# Altium schematic symbol library ATmega16 demo_2015.SCHLIB: 25 symbols
Pins are listed as number, name and electrical type; pins without a type are passive.

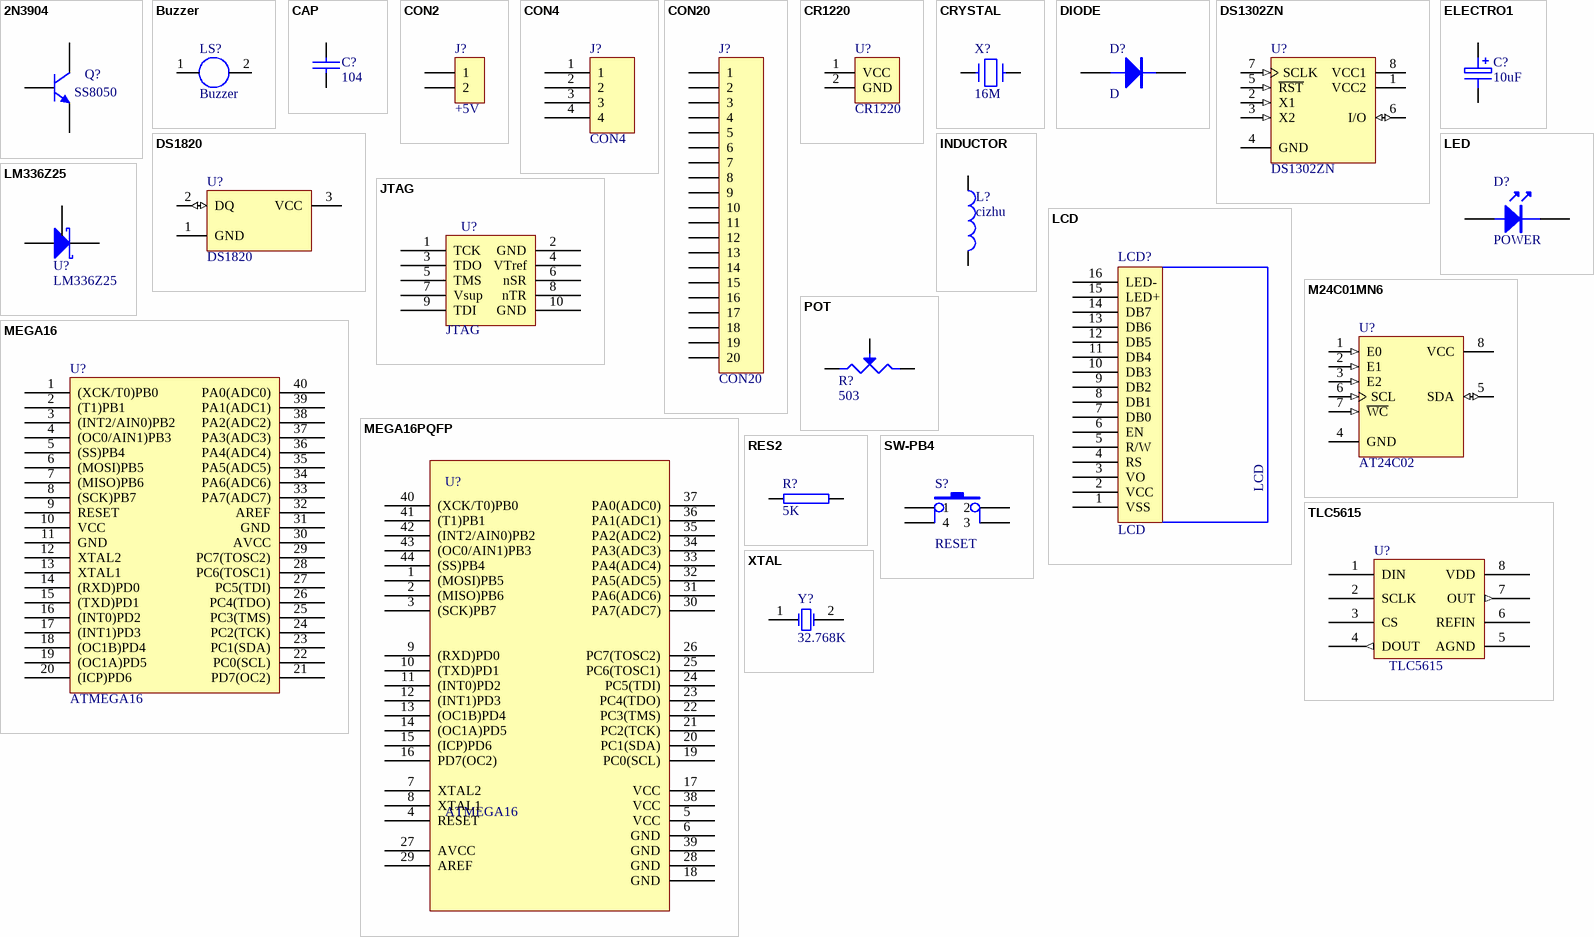
[diagram p0: symbols 2N3904 to XTAL]

## 2N3904
designator Q?, comment SS8050
NPN General Purpose Amplifier; Published: 8-Jun-2000; LatestRevisionDate: 15-Jan-2003; LatestRevisionNote: PCB Footprint 'BCY-W3/D4.7' replaced; DatasheetVersion: 1997; PackageVersion: Sep-1998; PackageReference: TO-92A; Publisher: Altium Limited; PackageDescription: TO, Flat Index; 3 In-Line, Axial Leads; Body Dia. 4.5mm; Leads 0.51 x 0.48 mm (max); ComponentLink1Description: Manufacturer Link; ComponentLink1URL: http://www.fairchildsemi.com/; ComponentLink2Description: Datasheet; ComponentLink2URL: http://www.fairchildsemi.com/ds/2N%2F2N3904.pdf
footprint TO-92A (TO, Flat Index; 3 In-Line, Axial Leads; Body Dia. 4.5mm; Leads 0.51 x 0.48 mm (max))
simulation model 2N3904 (NPN)
signal-integrity model 2N3904
footprint TO-92WIDE (Footprint not found)
pins: 1 E, 2 B, 3 C

## Buzzer
designator LS?
Buzzer Made in China
footprint Buzzer
pins: 1, 2

## CAP
designator C?, comment 104
footprint 0805
pins: 1, 2

## CON2
designator J?, comment +5V
Connector
footprint SIP2
pins: 1, 2

## CON4
designator J?
footprint SIP4
pins: 1, 2, 3, 4

## CON20
designator J?
Connector
footprint SIP20
pins: 1, 2, 3, 4, 5, 6, 7, 8, 9, 10, 11, 12, 13, 14, 15, 16, 17, 18, 19, 20

## CR1220
designator U?
footprint PCBComponent_1
footprint CR1220
pins: 1 VCC (power), 2 GND (power)

## CRYSTAL
designator X?, comment 16M
footprint XTAL2
pins: 1, 2

## DIODE
designator D?, comment D
Diode
footprint 1210 (Footprint not found); pin to pad 1>2 2>1
footprint 1211
footprint 1210
footprint Model Name (Footprint not found)
footprint 1210
footprint 1210
footprint 1211
footprint 1210
pins: 1, 2

## DS1302ZN
designator U?
Trickle Charge Timekeeping Chip; Published: 13-Oct-2000; LatestRevisionDate: 13-Apr-2006; LatestRevisionNote: IPC-7351 Footprint Added.; DatasheetVersion: 2-Jul-1999; PackageVersion: 1999; PackageReference: SOIC8N; Publisher: Altium Limited; PackageDescription: 8-Pin Small Outline Integrated Circuit 1.27 mm Pitch; Code_IPC: SOIC127P600-8; ComponentLink1Description: Manufacturer Link; ComponentLink1URL: http://www.maxim-ic.com/; ComponentLink2Description: Datasheet; ComponentLink2URL: http://pdfserv.maxim-ic.com/en/ds/DS1302.pdf; ComponentLink3Description: Discontinuation Notice; ComponentLink3URL: http://www.maxim-ic.com/qa/pdfs/non-obsolescence-letter.pdf
footprint SOIC8N_N (SOIC, 8-Leads, Body 4.9x3.9mm, Pitch 1.27mm, IPC Medium Density)
footprint SOIC8N_L (SOIC, 8-Leads, Body 4.9x3.9mm, Pitch 1.27mm, IPC High Density)
footprint SOIC8N_M (SOIC, 8-Leads, Body 4.9x3.9mm, Pitch 1.27mm, IPC Low Density)
3D model SOIC8N (8-Pin Small Outline Integrated Circuit 1.27 mm Pitch)
pins: 1 VCC2 (power), 2 X1 (in), 3 X2 (in), 4 GND (power), 5 ~{RST} (in), 6 I/O (io), 7 SCLK (in), 8 VCC1 (power)

## DS1820
designator U?
1-Wire Digital Thermometer; ComponentAvailability: Obsolete; Published: 13-Oct-2000; LatestRevisionDate: 17-Jul-2002; LatestRevisionNote: Re-released for DXP Platform.; DatasheetVersion: 5-Mar-1998; PackageVersion: 1999; PackageReference: PR35; Publisher: Altium Limited; PackageDescription: TO, Flat Index; 3 In-Line, Axial Leads; Body Dia. 4.6mm; Leads 0.56 x 0.51 mm (max); ComponentLink1Description: Manufacturer Link; ComponentLink1URL: http://www.maxim-ic.com/; ComponentLink2Description: Datasheet; ComponentLink2URL: http://pdfserv.maxim-ic.com/en/ds/DS1820-DS1820S.pdf; ComponentLink3Description: Discontinuation Notice; ComponentLink3URL: http://www.maxim-ic.com/qa/pdfs/non-obsolescence-letter.pdf
footprint PR35 (TO, Flat Index; 3 In-Line, Axial Leads; Body Dia. 4.6mm; Leads 0.56 x 0.51 mm (max))
footprint TO-92WIDE (Footprint not found)
pins: 1 GND (power), 2 DQ (io), 3 VCC (power)

## ELECTRO1
designator C?, comment 10uF
footprint 1210
pins: 1, 2

## INDUCTOR
designator L?, comment cizhu
Inductor; IC: *
footprint AXIAL0.35
footprint AXIAL-0.4
pins: 1, 2

## JTAG
designator U?
Text Field1: JTAG; JTAG: *
footprint JTAG
footprint IDC10
pins: 1 TCK, 2 GND, 3 TDO, 4 VTref, 5 TMS, 6 nSR, 7 Vsup, 8 nTR, 9 TDI, 10 GND

## LCD
designator LCD?
footprint SIP16
pins: 1 VSS, 2 VCC, 3 VO, 4 RS, 5 R/W, 6 EN, 7 DB0, 8 DB1, 9 DB2, 10 DB3, 11 DB4, 12 DB5, 13 DB6, 14 DB7, 15 LED+, 16 LED-

## LED
designator D?, comment POWER
footprint 0805
pins: 1, 2

## LM336Z25
designator U?
footprint TO-92
footprint TO-92WIDE
pins: 1 ADJ, 2 +, 3 -

## M24C01MN6
designator U?, comment AT24C02
1Kbit Serial I睠 Bus EEPROM; Published: 24-Aug-2001; LatestRevisionDate: 13-Apr-2006; LatestRevisionNote: IPC-7351 Footprint Added.; DatasheetVersion: Sep-1999; PackageVersion: Jul-1999; PackageReference: SOP8; Publisher: Altium Limited; PackageDescription: 8-Pin Small Outline Integrated Circuit 1.27 mm Pitch; ComponentLink1Description: Manufacturer Link; ComponentLink1URL: http://www.st.com/; ComponentLink2Description: Datasheet; ComponentLink2URL: http://www.st.com/stonline/products/literature/ds/5067/m24c01-r.pdf
footprint SOP8_N (SOIC, 8-Leads, Body 4.9x3.9mm, Pitch 1.27mm, IPC Medium Density)
footprint SOP8_L (SOIC, 8-Leads, Body 4.9x3.9mm, Pitch 1.27mm, IPC High Density)
footprint SOP8_M (SOIC, 8-Leads, Body 4.9x3.9mm, Pitch 1.27mm, IPC Low Density)
3D model SOP8 (8-Pin Small Outline Integrated Circuit 1.27 mm Pitch)
pins: 1 E0 (in), 2 E1 (in), 3 E2 (in), 4 GND (power), 5 SDA (io), 6 SCL (in), 7 ~{WC} (in), 8 VCC (power)

## MEGA16
designator U?, comment ATMEGA16
MEGA16; Text Field1: MEGA16; MEGA16: *
footprint DIP40
pins: 1 (XCK/T0)PB0, 2 (T1)PB1, 3 (INT2/AIN0)PB2, 4 (OC0/AIN1)PB3, 5 (SS)PB4, 6 (MOSI)PB5, 7 (MISO)PB6, 8 (SCK)PB7, 9 RESET, 10 VCC, 11 GND, 12 XTAL2, 13 XTAL1, 14 (RXD)PD0, 15 (TXD)PD1, 16 (INT0)PD2, 17 (INT1)PD3, 18 (OC1B)PD4, 19 (OC1A)PD5, 20 (ICP)PD6, 21 PD7(OC2), 22 PC0(SCL), 23 PC1(SDA), 24 PC2(TCK), 25 PC3(TMS), 26 PC4(TDO), 27 PC5(TDI), 28 PC6(TOSC1), 29 PC7(TOSC2), 30 AVCC, 31 GND, 32 AREF, 33 PA7(ADC7), 34 PA6(ADC6), 35 PA5(ADC5), 36 PA4(ADC4), 37 PA3(ADC3), 38 PA2(ADC2), 39 PA1(ADC1), 40 PA0(ADC0)

## MEGA16PQFP
designator U?, comment ATMEGA16
MEGA16; Text Field1: MEGA16; MEGA16: *
footprint TQFP80P1200X1200X120-44N (TQFP, 44-Leads, Body 10.00x10.00mm, Pitch 0.80mm, IPC Medium Density)
pins: 1 (MOSI)PB5, 2 (MISO)PB6, 3 (SCK)PB7, 4 RESET, 5 VCC, 6 GND, 7 XTAL2, 8 XTAL1, 9 (RXD)PD0, 10 (TXD)PD1, 11 (INT0)PD2, 12 (INT1)PD3, 13 (OC1B)PD4, 14 (OC1A)PD5, 15 (ICP)PD6, 16 PD7(OC2), 17 VCC, 18 GND, 19 PC0(SCL), 20 PC1(SDA), 21 PC2(TCK), 22 PC3(TMS), 23 PC4(TDO), 24 PC5(TDI), 25 PC6(TOSC1), 26 PC7(TOSC2), 27 AVCC, 28 GND, 29 AREF, 30 PA7(ADC7), 31 PA6(ADC6), 32 PA5(ADC5), 33 PA4(ADC4), 34 PA3(ADC3), 35 PA2(ADC2), 36 PA1(ADC1), 37 PA0(ADC0), 38 VCC, 39 GND, 40 (XCK/T0)PB0, 41 (T1)PB1, 42 (INT2/AIN0)PB2, 43 (OC0/AIN1)PB3, 44 (SS)PB4

## POT
designator R?, comment 503
Potentiometer; Setting: *
footprint VR5
pins: 1, 2, 3

## RES2
designator R?, comment 5K
footprint 0805
pins: 1, 2

## SW-PB4
designator S?, comment RESET
footprint SW-PB
pins: 1, 2, 3, 4

## TLC5615
designator U?
footprint TLC5615 (SOIC, 8-Leads, Body 4.90x3.90mm, Pitch 1.27mm, IPC Medium Density)
pins: 1 DIN, 2 SCLK, 3 CS, 4 DOUT (out), 5 AGND (power), 6 REFIN, 7 OUT (out), 8 VDD (power)

## XTAL
designator Y?, comment 32.768K
Crystal Oscillator; Published: 8-Jun-2000; LatestRevisionDate: 17-Jul-2002; LatestRevisionNote: Re-released for DXP Platform.; PackageReference: R38; Publisher: Altium Limited
footprint R38 (Crystal, Thru-Hole; 2 Leads; Body 3.1 x 8.2 mm (Dia.xH))
simulation model XTAL (Spice Subcircuit)
pins: 1 OSC1, 2 OSC2